# EAGLE library part MC10ELT24 (library QuantumOptics)
MC100ELT24, On Semi, TTL to ECL translator, SOIC-8. Sorry, can't PECL it due to ±5V supplies.
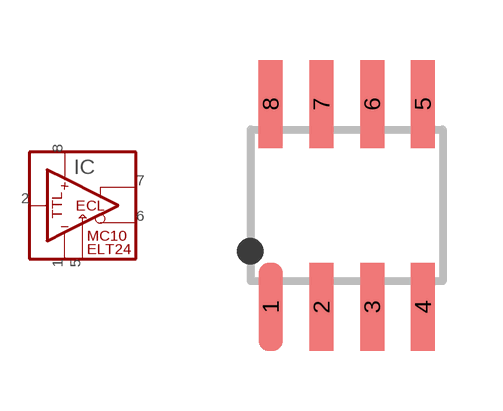
[diagram p32: symbol with the pads of SOIC-8; footprint SOIC-8]

Designator prefix IC

## MC10ELT24D  [SOIC-8]
1  VEE  in
2  IN  in
5  COM  in
6  ~Q  out
7  Q  out
8  VCC  in

## Footprint SOIC-8 (pad centres in mm)
SOIC-8 (a.k.a. SO-8), pads on 0.050" x 0.200" c-c spacing.
smd 0.6 x 2.2: 1 -1.27,-2.54; 2 0,-2.54; 3 1.27,-2.54; 4 2.54,-2.54; 5 2.54,2.54; 6 1.27,2.54; 7 0,2.54; 8 -1.27,2.54